# EAGLE library part SHUTTER (library LexParts)
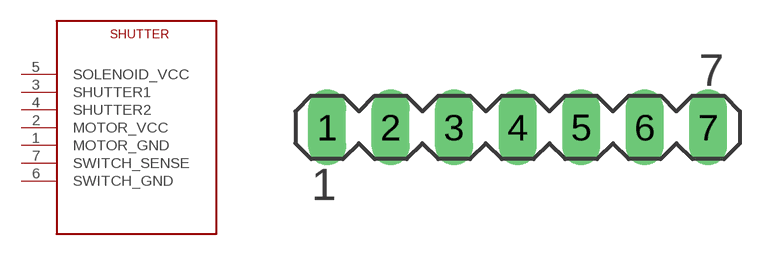
[diagram p0: symbol with the pads of MA07-1; footprint MA07-1]

Designator prefix -

## SHUTTER  [MA07-1]
1  MOTOR_GND
2  MOTOR_VCC
3  SHUTTER1
4  SHUTTER2
5  SOLENOID_VCC  pwr
6  SWITCH_GND
7  SWITCH_SENSE

## Footprint MA07-1 (pad centres in mm)
PIN HEADER
drill 1.016 long: 1 -7.62,0; 2 -5.08,0; 3 -2.54,0; 4 0,0; 5 2.54,0; 6 5.08,0; 7 7.62,0